# EAGLE library part SPARKFUN-BOARDS_SPARKFUN_PRO_MICRO (library sedani_chassis_control)
SparkFun Pro Micro Atmega32U4 compatible footprint. SparkFun Products: 3.3V/8MHz <https://www.sparkfun.com/products/12587> 5V/16MHz <https://www.sparkfun.com/products/12640>
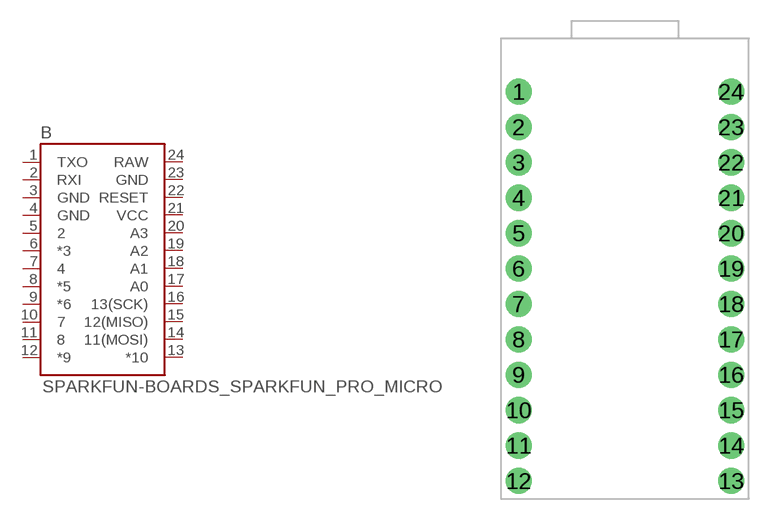
[diagram p0: symbol with the pads of SPARKFUN-BOARDS_SPARKFUN_PRO_MICRO; footprint SPARKFUN-BOARDS_SPARKFUN_PRO_MICRO]

Designator prefix B

## SPARKFUN-BOARDS_SPARKFUN_PRO_MICRO  [SPARKFUN-BOARDS_SPARKFUN_PRO_MICRO]
1  TXO  pas
2  RXI  pas
3  GND  pas
4  GND  pas
5  2  pas
6  *3  pas
7  4  pas
8  *5  pas
9  *6  pas
10  7  pas
11  8  pas
12  *9  pas
13  *10  pas
14  11(MOSI)  pas
15  12(MISO)  pas
16  13(SCK)  pas
17  A0  pas
18  A1  pas
19  A2  pas
20  A3  pas
21  VCC  pas
22  RESET  pas
23  GND  pas
24  RAW  pas

## Footprint SPARKFUN-BOARDS_SPARKFUN_PRO_MICRO (pad centres in mm)
SparkFun Pro Mico Footprint (with USB connector) Specifications: Pin count: 24 Pin pitch: 0.1" Area:0.7x1.3" Example device(s): SparkFun Pro Micro
drill 1.016 pad 1.88: 1 -7.62,12.7; 2 -7.62,10.16; 3 -7.62,7.62; 4 -7.62,5.08; 5 -7.62,2.54; 6 -7.62,0; 7 -7.62,-2.54; 8 -7.62,-5.08; 9 -7.62,-7.62; 10 -7.62,-10.16; 11 -7.62,-12.7; 12 -7.62,-15.24; 13 7.62,-15.24; 14 7.62,-12.7; 15 7.62,-10.16; 16 7.62,-7.62; 17 7.62,-5.08; 18 7.62,-2.54; 19 7.62,0; 20 7.62,2.54; 21 7.62,5.08; 22 7.62,7.62; 23 7.62,10.16; 24 7.62,12.7